# Altium schematic symbol library MCP9844.Schlib: 1 symbol
Pins are listed as number, name and electrical type; pins without a type are passive.

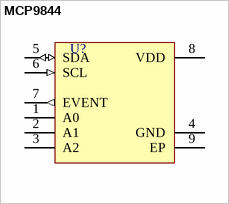
[diagram p0: symbol MCP9844]

## MCP9844
designator U?
Digital Temperature Sensor
pins: 1 A0, 2 A1, 3 A2, 4 GND (power), 5 SDA (io), 6 SCL (in), 7 EVENT (out), 8 VDD (power), 9 EP (power)